# EAGLE library part 615006138521 (library WR-MJ)
WR-MJ Cat 3 Modular Jacks – THT Characteristics Shieldingless and Shielded with EMI-Spring option Optional LEDs in various sequences Vertical and Horizontal orientation Stacked and assembled configurations Tray Packaging Properties PoE++ Compatible up to 100W (IEEE 802.3bt) UL and cULus-Certified UL94-V0 insulator material Ethernet Category 3 – Category 5 under conditions Applications Networks Internet of Things mart Buildings <https://www.we-online.com/components/media/o863419v209%20multi-WR-MJTH-615002138421.jpg> Details see: www.we-online.com/en/components/products/WR_MJ_MODULAR_JACKS_THT <www.we-online.com/catalog/WR_MJ_MODULAR_JACKS_THT/?utm_source=eagle_model&utm_medium=description_link&utm_campaign=eisos_eagle> Updated by Yingchun Shan 2020-01-06 2020(C) Würth Elektronik
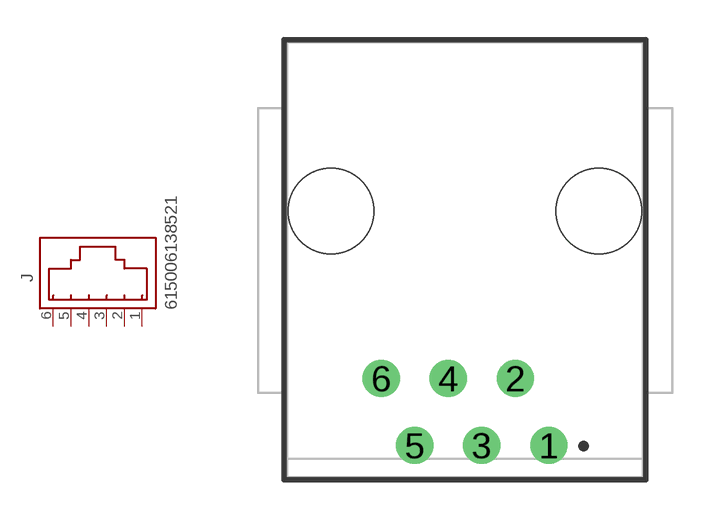
[diagram p18: symbol with the pads of 615006138521; footprint 615006138521]

Designator prefix J

## 615006138521 (DATASHEET-URL: https://www.we-online.com/redexpert/spec/615006138521?ae; EMI: No; LED: /; MOUNT: THT; PART-NUMBER: 615006138521; SIZE: Vertical; VALUE: 615006138521; XPXC: 6P6C)  [615006138521]
1  1  pas
2  2  pas
3  3  pas
4  4  pas
5  5  pas
6  6  pas

## Footprint 615006138521 (pad centres in mm)
WR-MJ Modular Jack Vertical Plastic 6P6C w. Ears, 8 pins
drill 0.9: 1 3.175,-7.04; 2 1.905,-4.5; 3 0.635,-7.04; 4 -0.635,-4.5; 5 -1.905,-7.04; 6 -3.175,-4.5
hole 3.25 at -5.08,1.85
hole 3.25 at 5.08,1.85